# EAGLE library part IC4553 (library chuong)
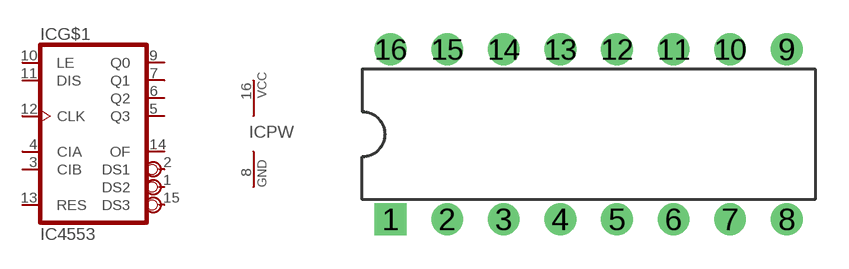
[diagram p51: symbol with the pads of DIL-16; footprint DIL-16]

Designator prefix IC; gates G$1=IC4553 PW=POWER

## IC4553  [DIL-16]
1  G$1:DS2  out
2  G$1:DS1  out
3  G$1:CIB  in
4  G$1:CIA  in
5  G$1:Q3  out
6  G$1:Q2  out
7  G$1:Q1  out
8  PW:GND  pwr
9  G$1:Q0  out
10  G$1:LE  in
11  G$1:DIS  in
12  G$1:CLK  in
13  G$1:RES  in
14  G$1:OF  out
15  G$1:DS3  out
16  PW:VCC  pwr

## Footprint DIL-16 (pad centres in mm)
drill 0.61 pad 1.422 square: 1 -8.89,-3.81
drill 0.61 pad 1.422 round: 2 -6.35,-3.81; 3 -3.81,-3.81; 4 -1.27,-3.81; 5 1.27,-3.81; 6 3.81,-3.81; 7 6.35,-3.81; 8 8.89,-3.81; 9 8.89,3.81; 10 6.35,3.81; 11 3.81,3.81; 12 1.27,3.81; 13 -1.27,3.81; 14 -3.81,3.81; 15 -6.35,3.81; 16 -8.89,3.81